# Altium schematic symbol library Elekid_Altium_Redo.SCHLIB: 18 symbols
Pins are listed as number, name and electrical type; pins without a type are passive.

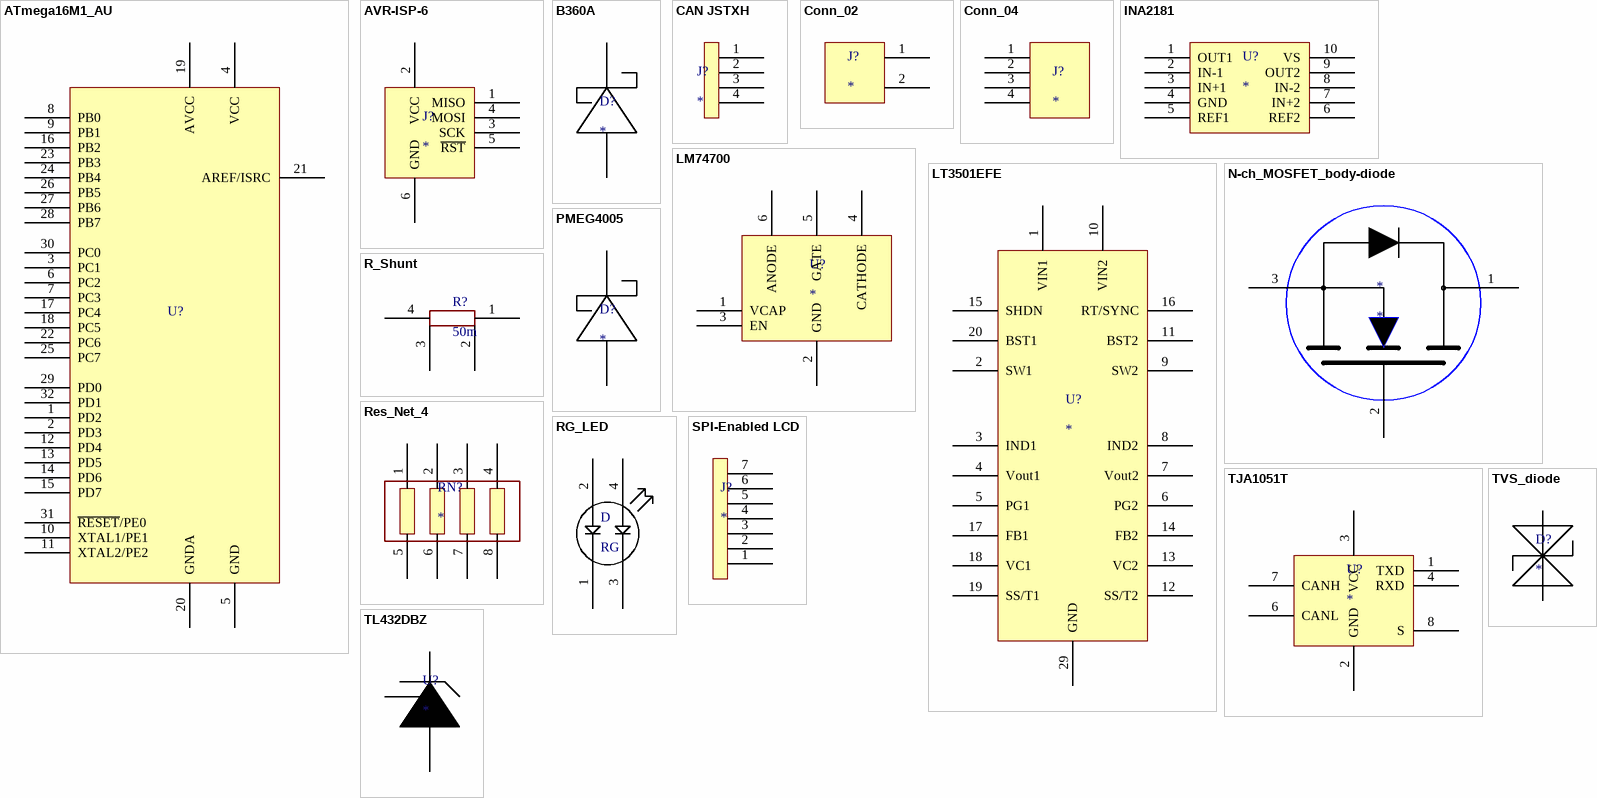
[diagram p0: symbols ATmega16M1_AU to TVS_diode]

## ATmega16M1_AU
designator U?
pins: 1 PD2, 2 PD3, 3 PC1, 4 VCC, 5 GND, 6 PC2, 7 PC3, 8 PB0, 9 PB1, 10 XTAL1/PE1, 11 XTAL2/PE2, 12 PD4, 13 PD5, 14 PD6, 15 PD7, 16 PB2, 17 PC4, 18 PC5, 19 AVCC, 20 GNDA, 21 AREF/ISRC, 22 PC6, 23 PB3, 24 PB4, 25 PC7, 26 PB5, 27 PB6, 28 PB7, 29 PD0, 30 PC0, 31 ~{RESET}/PE0, 32 PD1

## AVR-ISP-6
designator J?
pins: 1 MISO, 2 VCC, 3 SCK, 4 MOSI, 5 ~{RST}, 6 GND

## B360A
designator D?
pins: 1, 2

## CAN JSTXH
designator J?
pins: 1, 2, 3, 4

## Conn_02
designator J?
pins: 1, 2

## Conn_04
designator J?
pins: 1, 2, 3, 4

## INA2181
designator U?
pins: 1 OUT1, 2 IN-1, 3 IN+1, 4 GND, 5 REF1, 6 REF2, 7 IN+2, 8 IN-2, 9 OUT2, 10 VS

## LM74700
designator U?
pins: 1 VCAP, 2 GND, 3 EN, 4 CATHODE, 5 GATE, 6 ANODE

## LT3501EFE
designator U?
footprint LT3501
pins: 1 VIN1, 2 SW1, 3 IND1, 4 Vout1, 5 PG1, 6 PG2, 7 Vout2, 8 IND2, 9 SW2, 10 VIN2, 11 BST2, 12 SS/T2, 13 VC2, 14 FB2, 15 SHDN, 16 RT/SYNC, 17 FB1, 18 VC1, 19 SS/T1, 20 BST1, 29 GND

## N-ch_MOSFET_body-diode
designator *
pins: 1, 2, 3

## PMEG4005
designator D?
pins: 1, 2

## R_Shunt
designator R?, comment 50m
pins: 1, 2, 3, 4

## Res_Net_4
designator RN?
pins: 1, 2, 3, 4, 5, 6, 7, 8

## RG_LED
designator D, comment RG
pins: 1, 2, 3, 4

## SPI-Enabled LCD
designator J?
pins: 1, 2, 3, 4, 5, 6, 7

## TJA1051T
designator U?
pins: 1 TXD, 2 GND, 3 VCC, 4 RXD, 6 CANL, 7 CANH, 8 S

## TL432DBZ
designator U?
pins: 1, 2, 3

## TVS_diode
designator D?
pins: 1, 2